# Altium schematic symbol library Misc.SchLib: 6 symbols
Pins are listed as number, name and electrical type; pins without a type are passive.

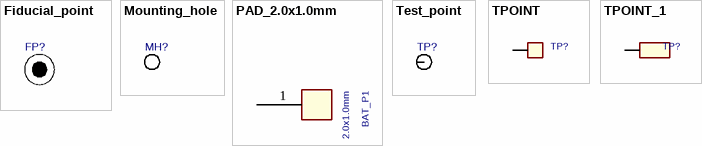
[diagram p0: symbols Fiducial_point to TPOINT_1]

## Fiducial_point
designator FP?  (no BOM)
Fiducial point for automated pcb assembly

## Mounting_hole
designator MH?  (no BOM)
Mounting hole
pins: 0

## PAD_2.0x1.0mm
designator BAT_P1, comment 2.0x1.0mm
Battery pads 2.0 x 1.0 mm Square Copper Pad; PART_NUMBER: 170-00104; CLASS: DISCRETE
footprint SMD_2_0x1_0mm
pins: 1

## Test_point
designator TP?  (no BOM)
Test point
pins: 0

## TPOINT
designator TP?, comment TP30  (value not drawn)
Test point
pins: 1 TP

## TPOINT_1
designator TP?, comment TP30  (value not drawn)
Test point
pins: 1 TP